# Altium footprint library Interface - Drivers, Receivers, Transceivers.PcbLib: 2 footprints
Each footprint in its own frame and in the unit in brackets; x right, y up, seen from the top. Pads: shape width x height; smd on the part's side, far side on the other; paste and mask are expansions set on the pad; w line width, h text height; cw(c..) or ccw(c..) is an arc to the next point about the centre after c.
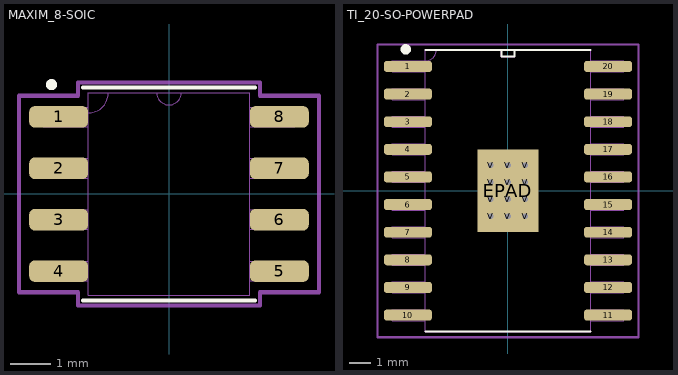
[diagram p0: the footprints below, top view; thin cyan lines are the x and y axes]

## MAXIM_8-SOIC [mm]
pads (8):
  rrect50% 1.45x0.53 smd paste+0 mask+0.04: 1(-2.725,1.905) 2(-2.725,0.635) 3(-2.725,-0.635) 4(-2.725,-1.905) 5(2.725,-1.905) 6(2.725,-0.635) 7(2.725,0.635) 8(2.725,1.905)
Top Overlay:
  circle w0.2: c-2.9,2.7 r0.036
  lines w0.1: -2.121,-2.629 2.121,-2.629 ; -2.121,2.629 2.121,2.629
Mechanical 13:
  lines w0.025: -1.994,2.002 ccw(c-1.994,2.502) -1.494,2.502 ; -0.305,2.502 ccw(c0,2.502) 0.305,2.502 ; -3.099,-2.146 -1.994,-2.146 -1.994,-1.664 -3.099,-1.664 -3.099,-2.146 ; -3.099,-0.876 -1.994,-0.876 -1.994,-0.394 -3.099,-0.394 -3.099,-0.876 ; -3.099,0.394 -1.994,0.394 -1.994,0.876 -3.099,0.876 -3.099,0.394 ; -3.099,1.664 -1.994,1.664 -1.994,2.146 -3.099,2.146 -3.099,1.664 ; -1.994,-2.502 -1.994,2.502 1.994,2.502 1.994,-2.502 -1.994,-2.502 ; 1.994,-2.146 3.099,-2.146 3.099,-1.664 1.994,-1.664 1.994,-2.146 ; 1.994,-0.876 3.099,-0.876 3.099,-0.394 1.994,-0.394 1.994,-0.876 ; 1.994,0.394 3.099,0.394 3.099,0.876 1.994,0.876 1.994,0.394 ; 1.994,1.664 3.099,1.664 3.099,2.146 1.994,2.146 1.994,1.664
Mechanical 15:
  lines w0.1: -3.703,-2.425 -2.248,-2.425 -2.248,-2.756 2.248,-2.756 2.248,-2.425 3.703,-2.425 3.703,2.425 2.248,2.425 2.248,2.756 -2.248,2.756 -2.248,2.425 -3.703,2.425 -3.703,-2.425
3D body: height 0.25, standoff 0, extent 0,0 0.254,0.254
3D body "21-0041B_8_MXM.step": height 1.76, standoff 0, extent -3.099,-2.502 3.099,2.502

## TI_20-SO-POWERPAD [mm]
pads (33):
  rrect50% 2.2x0.5 smd mask+0.04: 1(-4.6,5.715) 2(-4.6,4.445) 3(-4.6,3.175) 4(-4.6,1.905) 5(-4.6,0.635) 6(-4.6,-0.635) 7(-4.6,-1.905) 8(-4.6,-3.175) 9(-4.6,-4.445) 10(-4.6,-5.715) 11(4.6,-5.715) 12(4.6,-4.445) 13(4.6,-3.175) 14(4.6,-1.905) 15(4.6,-0.635) 16(4.6,0.635) 17(4.6,1.905) 18(4.6,3.175) 19(4.6,4.445) 20(4.6,5.715)
  rect 2.79x3.81 smd paste-1.892 mask+0.04: EPAD(0,0)
  round 0.508 hole 0.254 mask+0.04: V(-0.787,-1.181) V(-0.787,-0.394) V(-0.787,0.394) V(-0.787,1.181) V(0,-1.181) V(0,-0.394) V(0,0.394) V(0,1.181) V(0.787,-1.181) V(0.787,-0.394) V(0.787,0.394) V(0.787,1.181)
Top Overlay:
  circle w0.25: c-4.7,6.5 r0.112
  lines w0.1: -3.797,-6.477 3.797,-6.477 ; -3.797,6.477 3.797,6.477 ; -0.305,6.477 -0.305,6.172 0.305,6.172 0.305,6.477
Top Paste:
  drawing of 20 lines, arcs and shapes, not listed
Top Solder:
  region: 0.987,-1.968 0.987,1.968 1.458,1.968 1.458,-1.968
  region: 0.587,-1.968 0.587,1.968 0.2,1.968 0.2,-1.968
  region: -0.2,-1.968 -0.2,1.968 -0.587,1.968 -0.587,-1.968
  region: -1.458,-1.968 -1.458,1.968 -0.987,1.968 -0.987,-1.968
  region: -1.458,-1.968 -1.458,-1.381 1.458,-1.381 1.458,-1.968
  region: -1.458,-0.981 -1.458,-0.594 1.458,-0.594 1.458,-0.981
  region: -1.458,-0.194 -1.458,0.194 1.458,0.194 1.458,-0.194
  region: -1.458,0.594 -1.458,0.981 1.458,0.981 1.458,0.594
  region: -1.458,1.381 -1.458,1.968 1.458,1.968 1.458,1.381
Mechanical 13:
  lines w0.025: -3.797,5.977 ccw(c-3.797,6.477) -3.297,6.477 ; -0.305,6.477 -0.305,6.172 0.305,6.172 0.305,6.477 ; -5.321,-5.969 -3.797,-5.969 -3.797,-5.461 -5.321,-5.461 -5.321,-5.969 ; -5.321,-4.699 -3.797,-4.699 -3.797,-4.191 -5.321,-4.191 -5.321,-4.699 ; -5.321,-3.429 -3.797,-3.429 -3.797,-2.921 -5.321,-2.921 -5.321,-3.429 ; -5.321,-2.159 -3.797,-2.159 -3.797,-1.651 -5.321,-1.651 -5.321,-2.159 ; -5.321,-0.889 -3.797,-0.889 -3.797,-0.381 -5.321,-0.381 -5.321,-0.889 ; -5.321,0.381 -3.797,0.381 -3.797,0.889 -5.321,0.889 -5.321,0.381 ; -5.321,1.651 -3.797,1.651 -3.797,2.159 -5.321,2.159 -5.321,1.651 ; -5.321,2.921 -3.797,2.921 -3.797,3.429 -5.321,3.429 -5.321,2.921 ; -5.321,4.191 -3.797,4.191 -3.797,4.699 -5.321,4.699 -5.321,4.191 ; -5.321,5.461 -3.797,5.461 -3.797,5.969 -5.321,5.969 -5.321,5.461 ; -3.797,-6.477 -3.797,6.477 3.797,6.477 3.797,-6.477 -3.797,-6.477 ; 3.797,-5.969 5.321,-5.969 5.321,-5.461 3.797,-5.461 3.797,-5.969 ; 3.797,-4.699 5.321,-4.699 5.321,-4.191 3.797,-4.191 3.797,-4.699 ; 3.797,-3.429 5.321,-3.429 5.321,-2.921 3.797,-2.921 3.797,-3.429 ; 3.797,-2.159 5.321,-2.159 5.321,-1.651 3.797,-1.651 3.797,-2.159 ; 3.797,-0.889 5.321,-0.889 5.321,-0.381 3.797,-0.381 3.797,-0.889 ; 3.797,0.381 5.321,0.381 5.321,0.889 3.797,0.889 3.797,0.381 ; 3.797,1.651 5.321,1.651 5.321,2.159 3.797,2.159 3.797,1.651 ; 3.797,2.921 5.321,2.921 5.321,3.429 3.797,3.429 3.797,2.921 ; 3.797,4.191 5.321,4.191 5.321,4.699 3.797,4.699 3.797,4.191 ; 3.797,5.461 5.321,5.461 5.321,5.969 3.797,5.969 3.797,5.461
Mechanical 15:
  circle w0.05: c0,0 r0.25
  lines w0.05: -0.35,0 0.35,0 ; 0,-0.35 0,0.35
  lines w0.1: -6,-6.731 6,-6.731 6,6.731 -6,6.731 -6,-6.731
3D body "DWP0020B.stp": height 2.64, standoff 0, extent -5.22,-6.412 5.22,6.413
3D body: height 0.25, standoff 0, extent 0,0 0.254,0.254